# Altium footprint library DISCRETE_T1.PcbLib: 293 footprints (part 5 of 19)
Each footprint in its own frame and in the unit in brackets; x right, y up, seen from the top. Pads: shape width x height; smd on the part's side, far side on the other; paste and mask are expansions set on the pad; w line width, h text height; cw(c..) or ccw(c..) is an arc to the next point about the centre after c.
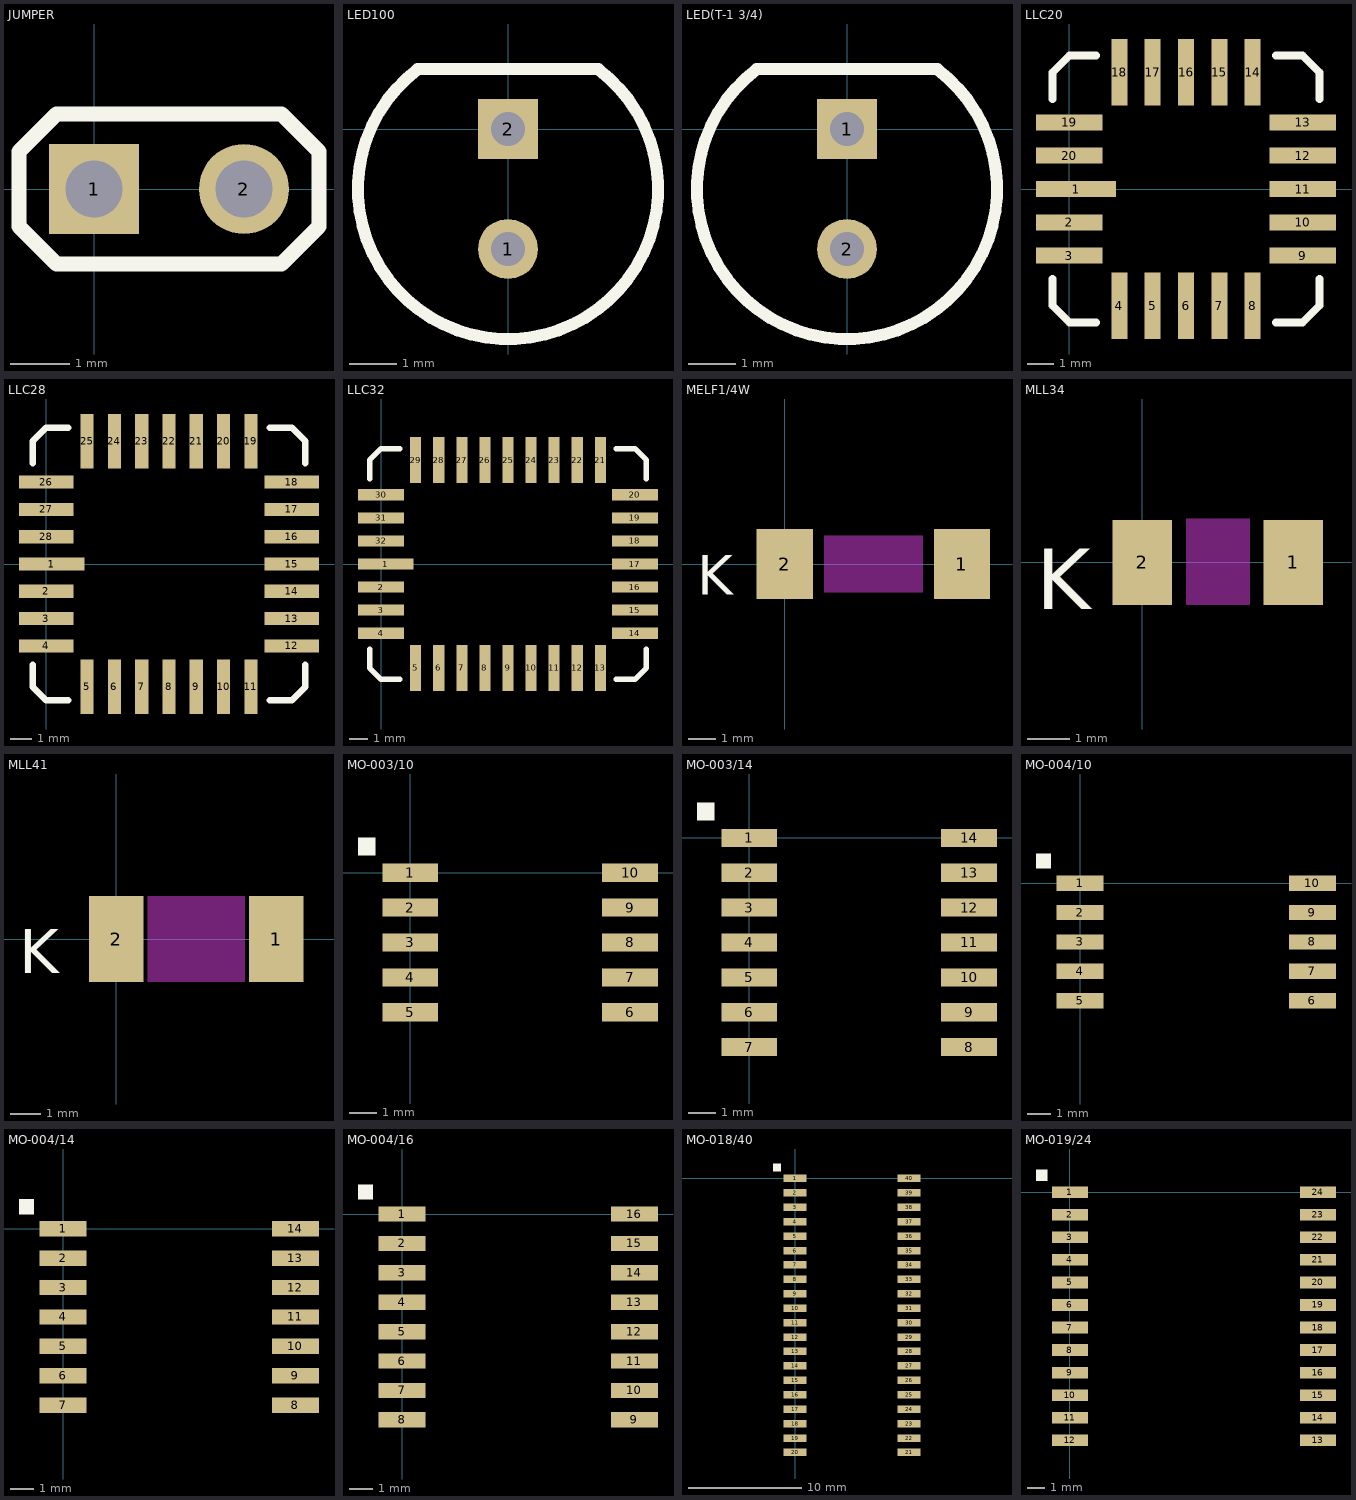
[diagram p4: the footprints below, top view; thin cyan lines are the x and y axes]

## JUMPER [mil]
pads (2):
  rect 60x60 hole 38: 1(0,0)
  round 60 hole 38: 2(100,0)
Top Overlay:
  lines w10: -50,-25 -25,-50 125,-50 150,-25 150,25 125,50 -25,50 -50,25 -50,-25

## LED100 [mil]
pads (2):
  round 50 hole 28: 1(0,-100)
  rect 50x50 hole 28: 2(0,0)
Top Overlay:
  lines w10: -75.23,49.83 ccw(c0,-50) 75.23,49.83 ; -75,50 75,50

## LED(T-1 3/4) [mil]
pads (2):
  rect 50x50 hole 28: 1(0,0)
  round 50 hole 28: 2(0,-100)
Top Overlay:
  lines w10: -75.23,49.83 ccw(c0,-50) 75.23,49.83 ; -75,50 75,50

## LLC20 [mil]
pads (20):
  rect 120x24 smd: 1(10,0)
  rect 100x24 smd: 2(0,-50) 3(0,-100) 9(350,-100) 10(350,-50) 11(350,0) 12(350,50) 13(350,100) 19(0,100) 20(0,50)
  rect 24x100 smd: 4(75,-175) 5(125,-175) 6(175,-175) 7(225,-175) 8(275,-175) 14(275,175) 15(225,175) 16(175,175) 17(125,175) 18(75,175)
Top Overlay:
  lines w12: -25,-135 -25,-175 0,-200 40,-200 ; -25,135 -25,175 0,200 40,200 ; 310,-200 350,-200 375,-175 375,-135 ; 310,200 350,200 375,175 375,135

## LLC28 [mil]
pads (28):
  rect 120x24 smd: 1(10,0)
  rect 100x24 smd: 2(0,-50) 3(0,-100) 4(0,-150) 12(450,-150) 13(450,-100) 14(450,-50) 15(450,0) 16(450,50) 17(450,100) 18(450,150) 26(0,150) 27(0,100) 28(0,50)
  rect 24x100 smd: 5(75,-225) 6(125,-225) 7(175,-225) 8(225,-225) 9(275,-225) 10(325,-225) 11(375,-225) 19(375,225) 20(325,225) 21(275,225) 22(225,225) 23(175,225) 24(125,225) 25(75,225)
Top Overlay:
  lines w12: -25,-185 -25,-225 0,-250 40,-250 ; -25,185 -25,225 0,250 40,250 ; 410,-250 450,-250 475,-225 475,-185 ; 410,250 450,250 475,225 475,185

## LLC32 [mil]
pads (32):
  rect 120x24 smd: 1(10,0)
  rect 100x24 smd: 2(0,-50) 3(0,-100) 4(0,-150) 14(550,-150) 15(550,-100) 16(550,-50) 17(550,0) 18(550,50) 19(550,100) 20(550,150) 30(0,150) 31(0,100) 32(0,50)
  rect 24x100 smd: 5(75,-225) 6(125,-225) 7(175,-225) 8(225,-225) 9(275,-225) 10(325,-225) 11(375,-225) 12(425,-225) 13(475,-225) 21(475,225) 22(425,225) 23(375,225) 24(325,225) 25(275,225) 26(225,225) 27(175,225) 28(125,225) 29(75,225)
Top Overlay:
  lines w12: -25,-185 -25,-225 0,-250 40,-250 ; -25,185 -25,225 0,250 40,250 ; 510,-250 550,-250 575,-225 575,-185 ; 510,250 550,250 575,225 575,185

## MELF1/4W [mil]
pads (2):
  rect 80x100 smd: 1(252,0) 2(0,0)
Top Overlay:
  text "K" at -125,-44 h56.88
Multi-Layer keep-out:
  region: 196,-40 196,40 56,40 56,-40

## MLL34 [mil]
pads (2):
  rect 56x80 smd: 1(142,0) 2(0,0)
Top Overlay:
  text "K" at -100,-44 h56.88
Multi-Layer keep-out:
  region: 101,-40 101,41 41,41 41,-40

## MLL41 [mil]
pads (2):
  rect 70x110 smd: 1(205,0) 2(0,0)
Top Overlay:
  text "K" at -125,-44 h56.88
Multi-Layer keep-out:
  region: 165,-55 165,55 40,55 40,-55

## MO-003/10 [mil]
pads (10):
  rect 80x26 smd: 1(0,0) 2(0,-50) 3(0,-100) 4(0,-150) 5(0,-200) 6(315,-200) 7(315,-150) 8(315,-100) 9(315,-50) 10(315,0)
Top Overlay:
  region: -75,25 -50,25 -50,50 -75,50

## MO-003/14 [mil]
pads (14):
  rect 80x26 smd: 1(0,0) 2(0,-50) 3(0,-100) 4(0,-150) 5(0,-200) 6(0,-250) 7(0,-300) 8(315,-300) 9(315,-250) 10(315,-200) 11(315,-150) 12(315,-100) 13(315,-50) 14(315,0)
Top Overlay:
  region: -50,25 -50,50 -75,50 -75,25

## MO-004/10 [mil]
pads (10):
  rect 80x26 smd: 1(0,0) 2(0,-50) 3(0,-100) 4(0,-150) 5(0,-200) 6(395,-200) 7(395,-150) 8(395,-100) 9(395,-50) 10(395,0)
Top Overlay:
  region: -75,25 -50,25 -50,50 -75,50

## MO-004/14 [mil]
pads (14):
  rect 80x26 smd: 1(0,0) 2(0,-50) 3(0,-100) 4(0,-150) 5(0,-200) 6(0,-250) 7(0,-300) 8(395,-300) 9(395,-250) 10(395,-200) 11(395,-150) 12(395,-100) 13(395,-50) 14(395,0)
Top Overlay:
  region: -75,25 -50,25 -50,50 -75,50

## MO-004/16 [mil]
pads (16):
  rect 80x26 smd: 1(0,0) 2(0,-50) 3(0,-100) 4(0,-150) 5(0,-200) 6(0,-250) 7(0,-300) 8(0,-350) 9(395,-350) 10(395,-300) 11(395,-250) 12(395,-200) 13(395,-150) 14(395,-100) 15(395,-50) 16(395,0)
Top Overlay:
  region: -75,25 -50,25 -50,50 -75,50

## MO-018/40 [mil]
pads (40):
  rect 80x26 smd: 1(0,0) 2(0,-50) 3(0,-100) 4(0,-150) 5(0,-200) 6(0,-250) 7(0,-300) 8(0,-350) 9(0,-400) 10(0,-450) 11(0,-500) 12(0,-550) 13(0,-600) 14(0,-650) 15(0,-700) 16(0,-750) 17(0,-800) 18(0,-850) 19(0,-900) 20(0,-950) 21(395,-950) 22(395,-900) 23(395,-850) 24(395,-800) 25(395,-750) 26(395,-700) 27(395,-650) 28(395,-600) 29(395,-550) 30(395,-500) 31(395,-450) 32(395,-400) 33(395,-350) 34(395,-300) 35(395,-250) 36(395,-200) 37(395,-150) 38(395,-100) 39(395,-50) 40(395,0)
Top Overlay:
  region: -75,25 -50,25 -50,50 -75,50

## MO-019/24 [mil]
pads (24):
  rect 80x26 smd: 1(0,0) 2(0,-50) 3(0,-100) 4(0,-150) 5(0,-200) 6(0,-250) 7(0,-300) 8(0,-350) 9(0,-400) 10(0,-450) 11(0,-500) 12(0,-550) 13(550,-550) 14(550,-500) 15(550,-450) 16(550,-400) 17(550,-350) 18(550,-300) 19(550,-250) 20(550,-200) 21(550,-150) 22(550,-100) 23(550,-50) 24(550,0)
Top Overlay:
  region: -75,25 -50,25 -50,50 -75,50